# EAGLE library part DX7088AB (library led-dot-matrix)
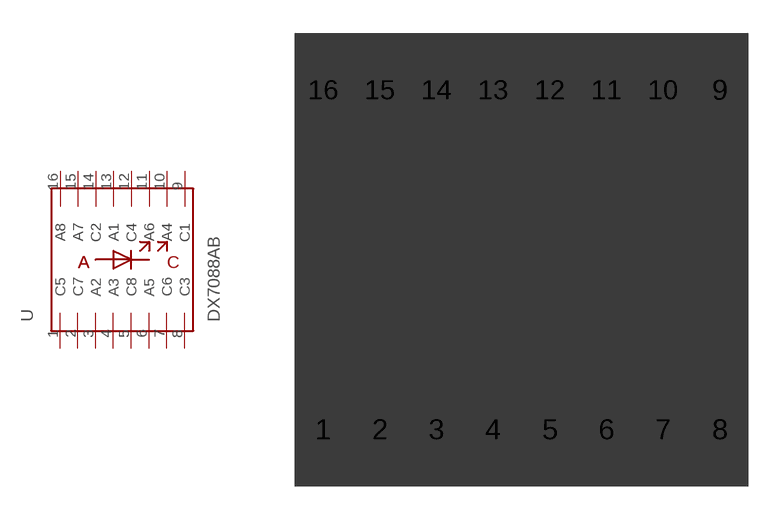
[diagram p0: symbol with the pads of DX7088AB; footprint DX7088AB]

Designator prefix -

## DX7088AB  [DX7088AB]
1  C5
2  C7
3  A2
4  A3
5  C8
6  A5
7  C6
8  C3
9  C1
10  A4
11  A6
12  C4
13  A1
14  C2
15  A7
16  A8

## Footprint DX7088AB (pad centres in mm)
drill 0.8 square: 1 -6.35,-3.81; 2 -3.81,-3.81; 3 -1.27,-3.81; 4 1.27,-3.81; 5 3.81,-3.81; 6 6.35,-3.81; 7 8.89,-3.81; 8 11.43,-3.81; 9 11.43,11.43; 10 8.89,11.43; 11 6.35,11.43; 12 3.81,11.43; 13 1.27,11.43; 14 -1.27,11.43; 15 -3.81,11.43; 16 -6.35,11.43